# EAGLE library part LSK489A (library transistor-fet)
N-Channel JFET N-Channel (Dual) 60 V 500 mW
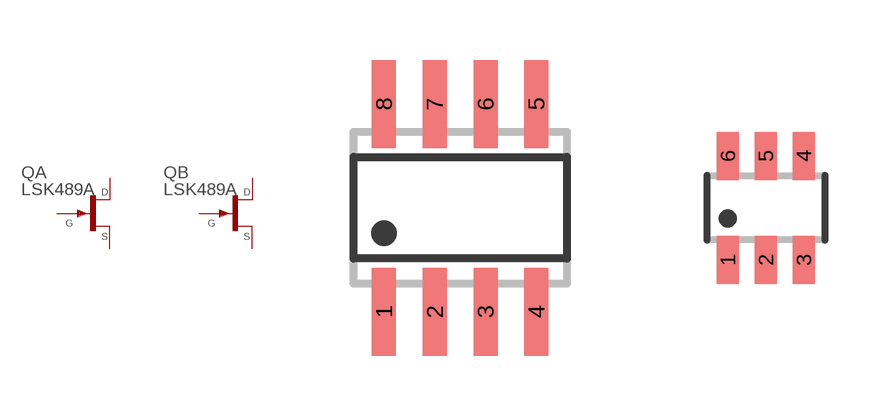
[diagram p27: symbol with the pads of SO08; footprints SO08, SOT23-6]

Designator prefix Q; gates A=JFET-N B=JFET-N

## LSK489ASO08  [SO08]
1  A:S  pas
2  A:D  pas
4  A:G  pas
5  B:S  pas
6  B:D  pas
8  B:G  pas

## LSK489ASOT23-6  [SOT23-6]
1  A:G  pas
2  A:D  pas
3  A:S  pas
4  B:G  pas
5  B:D  pas
6  B:S  pas

## Footprint SO08 (pad centres in mm)
SMALL OUTLINE INTEGRATED CIRCUIT body 3.9 mm/JEDEC MS-012AA
smd 0.6 x 2.2: 1 -1.905,-2.6; 2 -0.635,-2.6; 3 0.635,-2.6; 4 1.905,-2.6; 5 1.905,2.6; 6 0.635,2.6; 7 -0.635,2.6; 8 -1.905,2.6

## Footprint SOT23-6 (pad centres in mm)
SOT-23 - DBV 0.95 mm pitch
smd 0.55 x 1.2: 1 -0.95,-1.3; 2 0,-1.3; 3 0.95,-1.3; 4 0.95,1.3; 5 0,1.3; 6 -0.95,1.3